# Altium footprint library Transistor Footprints.PcbLib: 12 footprints
Each footprint in its own frame and in the unit in brackets; x right, y up, seen from the top. Pads: shape width x height; smd on the part's side, far side on the other; paste and mask are expansions set on the pad; w line width, h text height; cw(c..) or ccw(c..) is an arc to the next point about the centre after c.
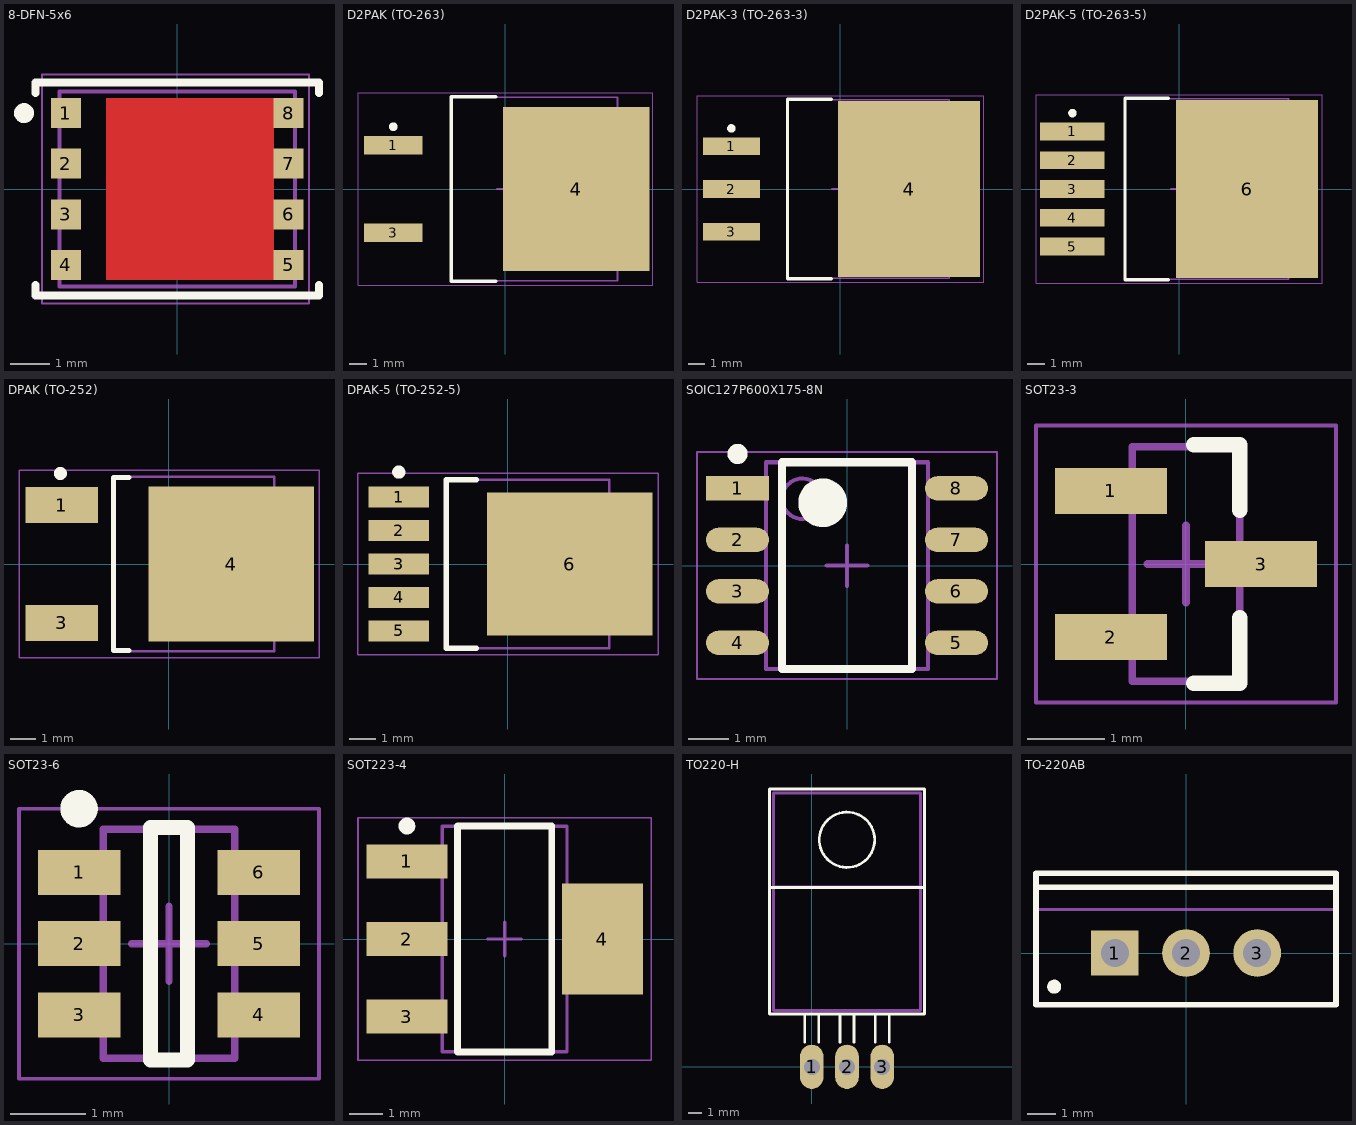
[diagram p0: the footprints below, top view; thin cyan lines are the x and y axes]

## 8-DFN-5x6 [mm] "DFN, 8-Leads, Body 5.9x4.9mm, Pitch 1.27mm"
height 1
pads (8):
  rect 0.75x0.75 smd: 1(-2.795,1.905) 2(-2.795,0.635) 3(-2.795,-0.635) 4(-2.795,-1.905) 5(2.794,-1.905) 6(2.794,-0.635) 7(2.794,0.635) 8(2.794,1.905)
Top Layer:
  region: 2.42,2.28 -1.778,2.28 -1.778,-2.279 2.42,-2.279 2.42,0.254 2.42,1.016
Top Overlay:
  circle w0.25: c-3.845,1.905 r0.125
  lines w0.2: -3.556,-2.413 -3.556,-2.667 3.556,-2.667 3.556,-2.413 ; -3.556,2.413 -3.556,2.667 3.556,2.667 3.556,2.413
Mechanical 13:
  lines w0.1: -2.95,-2.45 2.95,-2.45 2.95,2.45 -2.95,2.45 -2.95,-2.45
Mechanical 15:
  lines w0.05: -3.395,-2.875 -3.395,2.875 3.3,2.875 3.3,-2.875 -3.395,-2.875
  lines w0.1: -0.5,0 0.5,0 ; 0,-0.5 0,0.5
3D body: height 1.1, standoff 0, extent -2.95,-2.45 2.95,2.45

## D2PAK (TO-263) [mm] "D2-PAK, 3-Leads, Body 8.9x10.2mm, 3 Pads, Pitch 2.54mm, Lead Span 15.2mm, IPC Medium Density"
height 4.83
pads (3):
  rect 3.4x1.05 smd: 1(-6.5,2.54) 3(-6.5,-2.54)
  rect 8.5x9.5 smd: 4(4.1,0)
Top Overlay:
  circle w0.25: c-6.5,3.615 r0.125
  lines w0.2: -0.55,-5.35 -3.15,-5.35 -3.15,5.35 -0.55,5.35
Mechanical 13:
  lines w0.1: -3.15,-5.325 6.5,-5.325 6.5,5.325 -3.15,5.325 -3.15,-5.325
Mechanical 15:
  lines w0.05: -8.55,-5.575 8.55,-5.575 8.55,5.575 -8.55,5.575 -8.55,-5.575
  lines w0.1: -0.5,0 0.5,0 ; 0,-0.5 0,0.5
3D body: height 4.83, standoff 0.3, extent -3.15,-5.325 6.5,5.325

## D2PAK-3 (TO-263-3) [mm] "D2-PAK, 4-Leads, Body 8.9x10.2mm, 4 Pads, Pitch 2.54mm, Lead Span 15.2mm, IPC Medium Density"
height 4.83
pads (4):
  rect 3.4x1.05 smd: 1(-6.5,2.54) 2(-6.5,0) 3(-6.5,-2.54)
  rect 8.5x10.5 smd: 4(4.1,0)
Top Overlay:
  circle w0.25: c-6.5,3.615 r0.125
  lines w0.2: -0.55,-5.35 -3.15,-5.35 -3.15,5.35 -0.55,5.35
Mechanical 13:
  lines w0.1: -3.15,-5.325 -3.15,5.325 6.5,5.325 6.5,-5.325 -3.15,-5.325
Mechanical 15:
  lines w0.05: -8.55,-5.575 -8.55,5.575 8.55,5.575 8.55,-5.575 -8.55,-5.575
  lines w0.1: -0.5,0 0.5,0 ; 0,-0.5 0,0.5
3D body: height 4.83, standoff 0.3, extent -3.15,-5.325 6.5,5.325

## D2PAK-5 (TO-263-5) [mm] "D2-PAK, 6-Leads, Body 8.9x10.2mm, 6 Pads, Pitch 1.7mm, Lead Span 15.2mm, IPC Medium Density"
height 4.83
pads (6):
  rect 3.8x1.05 smd: 1(-6.3,3.4) 2(-6.3,1.7) 3(-6.3,0) 4(-6.3,-1.7) 5(-6.3,-3.4)
  rect 8.4x10.5 smd: 6(4,0)
Top Overlay:
  circle w0.25: c-6.3,4.475 r0.125
  lines w0.2: -0.65,-5.35 -3.2,-5.35 -3.2,5.35 -0.65,5.35
Mechanical 13:
  lines w0.1: -3.2,-5.325 6.45,-5.325 6.45,5.325 -3.2,5.325 -3.2,-5.325
Mechanical 15:
  lines w0.05: -8.45,-5.575 8.45,-5.575 8.45,5.575 -8.45,5.575 -8.45,-5.575
  lines w0.1: -0.5,0 0.5,0 ; 0,-0.5 0,0.5
3D body: height 4.83, standoff 0, extent -3.2,-5.325 6.45,5.325

## DPAK (TO-252) [mm] "D-PAK, 3-Pads, Body 6.21x6.73mm (max), IPC Medium Density"
height 2.38
pads (3):
  rect 2.8x1.4 smd: 1(-4.15,2.28) 3(-4.15,-2.28)
  rect 6.4x6 smd: 4(2.4,0)
Top Overlay:
  circle w0.25: c-4.2,3.5 r0.125
  lines w0.2: -1.55,-3.35 -2.15,-3.35 -2.15,3.35 -1.55,3.35
Mechanical 13:
  lines w0.1: -2.15,-3.375 -2.15,3.375 4.07,3.375 4.07,-3.375 -2.15,-3.375
Mechanical 15:
  lines w0.05: -5.8,-3.625 5.8,-3.625 5.8,3.625 -5.8,3.625 -5.8,-3.625
  lines w0.1: -0.5,0 0.5,0 ; 0,-0.5 0,0.5
3D body "User Library-DPAK-1.step": height 2.38, standoff -0.03, extent -4.795,-3.27 5.144,3.27

## DPAK-5 (TO-252-5) [mm] "D-PAK, 6-Pads, Body 6.20x6.56mm (max), IPC Medium Density"
height 2.38
pads (6):
  rect 2.3x0.8 smd: 1(-4.15,2.54) 2(-4.15,1.27) 3(-4.15,0) 4(-4.15,-1.27) 5(-4.15,-2.54)
  rect 6.3x5.45 smd: 6(2.35,0)
Top Overlay:
  circle w0.25: c-4.15,3.49 r0.125
  lines w0.2: -1.2,-3.2 -2.35,-3.2 -2.35,3.2 -1.2,3.2
Mechanical 13:
  lines w0.1: -2.35,-3.2 -2.35,3.2 3.85,3.2 3.85,-3.2 -2.35,-3.2
Mechanical 15:
  lines w0.05: -5.7,-3.45 -5.7,3.45 5.7,3.45 5.7,-3.45 -5.7,-3.45
  lines w0.1: -0.5,0 0.5,0 ; 0,-0.5 0,0.5
3D body: height 2.38, standoff 0.3, extent -2.35,-3.2 3.85,3.2

## SOIC127P600X175-8N [mm] "SOIC, 8-Leads, Body 4.95x3.90mm, Pitch 1.27mm, IPC Medium Density"
height 1.75
pads (8):
  rect 1.55x0.6 smd: 1(-2.7,1.905)
  oval 1.55x0.6 smd: 2(-2.7,0.635) 3(-2.7,-0.635) 4(-2.7,-1.905) 5(2.7,-1.905) 6(2.7,-0.635) 7(2.7,0.635) 8(2.7,1.905)
Top Overlay:
  circle w0.6: c-0.6,1.55 r0.3
  circle w0.25: c-2.7,2.755 r0.125
  lines w0.2: -1.6,-2.55 1.6,-2.55 1.6,2.55 -1.6,2.55 -1.6,-2.55
Mechanical 13:
  circle w0.1: c-1.1,1.65 r0.5
  lines w0.1: -2,-2.55 2,-2.55 2,2.55 -2,2.55 -2,-2.55
Mechanical 15:
  lines w0.05: -3.7,-2.8 3.7,-2.8 3.7,2.8 -3.7,2.8 -3.7,-2.8
  lines w0.1: -0.5,0 0.5,0 ; 0,-0.5 0,0.5
3D body "SOIC127P600X175-8N.step": height 1.9, standoff 0, extent -3.028,-2.5 3.028,2.5

## SOT23-3 [mm] "SOT23, 3-Leads, Body 2.90x2.35mm, Pitch 0.95mm, IPC Medium Density"
height 1.1
pads (3):
  rect 1.45x0.6 smd: 1(-0.975,0.95) 2(-0.975,-0.95) 3(0.975,0)
Top Overlay:
  lines w0.2: 0.1,-1.55 0.7,-1.55 0.7,-0.7 ; 0.1,1.55 0.7,1.55 0.7,0.7
Mechanical 13:
  lines w0.1: -0.7,-1.525 0.7,-1.525 0.7,1.525 -0.7,1.525 -0.7,-1.525
Mechanical 15:
  lines w0.05: -1.95,-1.8 1.95,-1.8 1.95,1.8 -1.95,1.8 -1.95,-1.8
  lines w0.1: -0.5,0 0.5,0 ; 0,-0.5 0,0.5
3D body "SOT23-3.step": height 1.3, standoff 0, extent -1.4,-1.45 1.4,1.45

## SOT23-6 [mm] "SOT23, 6-Leads, Body 2.90x2.80mm, Pitch 0.95mm, IPC Medium Density"
height 1.45
pads (6):
  rect 1.1x0.6 smd: 1(-1.2,0.95) 2(-1.2,0) 3(-1.2,-0.95) 4(1.2,-0.95) 5(1.2,0) 6(1.2,0.95)
Top Overlay:
  circle w0.25: c-1.2,1.8 r0.125
  lines w0.2: -0.25,-1.55 0.25,-1.55 0.25,1.55 -0.25,1.55 -0.25,-1.55
Mechanical 13:
  lines w0.1: -0.875,-1.525 -0.875,1.525 0.875,1.525 0.875,-1.525 -0.875,-1.525
Mechanical 15:
  lines w0.05: -2,-1.8 -2,1.8 2,1.8 2,-1.8 -2,-1.8
  lines w0.1: -0.5,0 0.5,0 ; 0,-0.5 0,0.5
3D body "SOT23-6.step": height 1.45, standoff 0, extent -1.4,-1.45 1.4,1.45

## SOT223-4 [mm] "SOT223, 4-Leads, Body 6.5x3.5mm, Pitch 2.3mm, Lead Span 7mm, IPC Medium Density"
height 1.8
pads (4):
  rect 2.4x1 smd: 1(-2.9,2.3) 2(-2.9,0) 3(-2.9,-2.3)
  rect 2.4x3.3 smd: 4(2.9,0)
Top Overlay:
  circle w0.25: c-2.9,3.35 r0.125
  lines w0.2: -1.4,-3.35 1.4,-3.35 1.4,3.35 -1.4,3.35 -1.4,-3.35
Mechanical 13:
  lines w0.1: -1.85,-3.35 1.85,-3.35 1.85,3.35 -1.85,3.35 -1.85,-3.35
Mechanical 15:
  lines w0.05: -4.35,-3.6 4.35,-3.6 4.35,3.6 -4.35,3.6 -4.35,-3.6
  lines w0.1: -0.5,0 0.5,0 ; 0,-0.5 0,0.5
3D body "sot-223.step": height 1.64, standoff -0.04, extent -3.466,-3.25 3.466,3.25

## TO220-H [mm]
pads (3):
  oval 1.7x3.2 hole 1.15: 1(0,0) 2(2.54,0) 3(5.08,0)
Top Overlay:
  circle w0.2: c2.54,16.4 r2
  lines w0.2: -3.048,12.954 8.128,12.954 ; -0.508,1.778 -0.508,3.81 ; 0.508,1.778 0.508,3.81 ; 2.032,1.778 2.032,3.81 ; 3.048,1.778 3.048,3.81 ; 4.572,1.778 4.572,3.81 ; 5.588,1.778 5.588,3.81 ; -3.048,3.81 -3.048,20.066 8.128,20.066 8.128,3.81 -3.048,3.81
Mechanical 13:
  lines w0.2: -2.76,12.988 -2.76,19.778 2.54,19.778 7.84,19.778 7.84,12.988 ; -2.76,12.988 7.84,12.988 ; -2.76,12.988 -2.76,4.064 2.54,4.064 7.84,4.064 7.84,12.988
3D body: height 4.5, standoff 3.1, extent -2.76,12.988 7.84,19.778
3D body: height 4.5, standoff 0, extent -2.76,4.064 7.84,12.988

## TO-220AB [mm] "TO, Thru-Hole, Vertical, Heatsink Mounted; 3 In-Line Leads; Pitch 2.54 mm"
height 19.3
pads (3):
  rect 1.7x1.6 hole 1: 1(-2.54,0)
  round 1.7 hole 1: 2(0,0) 3(2.54,0)
Top Overlay:
  circle w0.25: c-4.7,-1.2 r0.125
  lines w0.2: -5.35,2.35 5.35,2.35 ; -5.35,-1.85 5.35,-1.85 5.35,2.85 -5.35,2.85 -5.35,-1.85
Mechanical 13:
  lines w0.1: -5.35,1.55 5.35,1.55 ; -5.35,-1.85 -5.35,2.85 5.35,2.85 5.35,-1.85 -5.35,-1.85
Mechanical 15:
  lines w0.1: -0.5,0 0.5,0 ; 0,-0.5 0,0.5
3D body: height 19.3, standoff 12.9, extent -5.349,1.551 5.349,2.849
3D body: height 12.9, standoff 4, extent -5.4,-1.9 5.4,2.9